# EAGLE library part 3X2_PINHEADER (library lib)
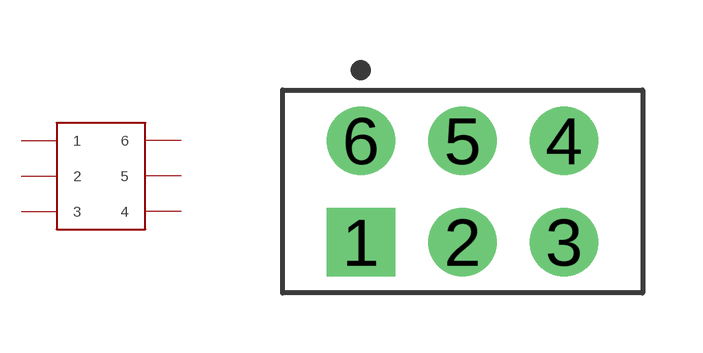
[diagram p0: symbol with the pads of HDRV6W64P254_2X3_900X508X838B; footprint HDRV6W64P254_2X3_900X508X838B]

Designator prefix -

## 3X2_PINHEADER3X2_PINHEADER (LINK: https://eu.mouser.com/ProductDetail/TE-Connectivity/5-146258-3?qs=lf8um9gOXCICbEgdwHMcdQ%3D%3D; MPN: 5-146258-3; SUPPLIER: Mouser)  [HDRV6W64P254_2X3_900X508X838B]
1  1
2  2
3  3
4  4
5  5
6  6

## Footprint HDRV6W64P254_2X3_900X508X838B (pad centres in mm)
Double-row, 6-pin Pin Header (Male) Straight, 2.54 mm (0.10 in) row pitch, 2.54 mm (0.10 in) col pitch, 5.84 mm mating length, 9.00 X 5.08 X 8.38 mm body Double-row (2X3), 6-pin Pin Header (Male) Straight package with 2.54 mm (0.10 in) row pitch, 2.54 mm (0.10 in) col pitch, 0.64 mm lead width, 3.00 mm tail length and 5.84 mm mating length with overall size 9.00 X 5.08 X 8.38 mm, pin pattern - clockwise from top left
drill 1.105 pad 1.705 square: 1 0,-2.54
drill 1.105 pad 1.705: 2 2.54,-2.54; 3 5.08,-2.54; 4 5.08,0; 5 2.54,0; 6 0,0